# EAGLE library part DAC7574IDGSR (library dac7574)
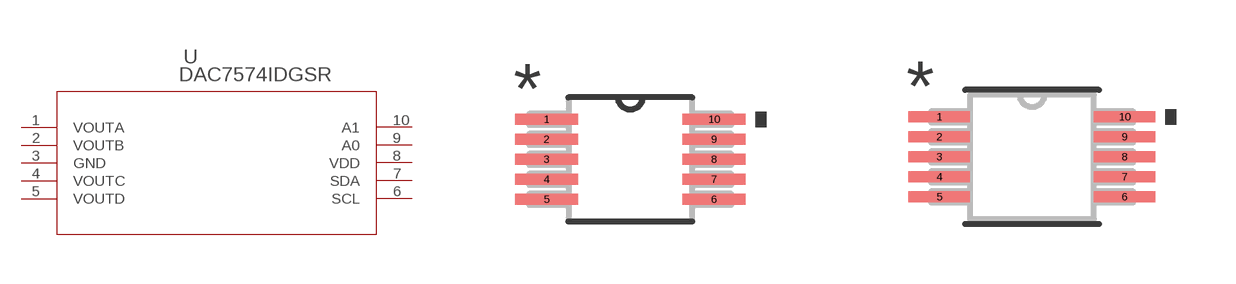
[diagram p0: symbol with the pads of DGS10; footprints DGS10, DGS10-M]

Designator prefix U

## DAC7574IDGSRDGS10 (Copyright: Copyright (C) 2023 Ultra Librarian. All rights reserved.; Manufacturer_Part_Number: DAC7574IDGSR; Mfr_Name: Texas Instruments)  [DGS10]
1  VOUTA  out
2  VOUTB  out
3  GND  pwr
4  VOUTC  out
5  VOUTD  out
6  SCL  in
7  SDA
8  VDD  pwr
9  A0  pas
10  A1  pas

## DAC7574IDGSRDGS10-M (Copyright: Copyright (C) 2023 Ultra Librarian. All rights reserved.; Manufacturer_Part_Number: DAC7574IDGSR; Mfr_Name: Texas Instruments)  [DGS10-M]
Pads as for DGS10

## DAC7574IDGSRDGS10-L (Copyright: Copyright (C) 2023 Ultra Librarian. All rights reserved.; Manufacturer_Part_Number: DAC7574IDGSR; Mfr_Name: Texas Instruments)  [DGS10-L]
Pads as for DGS10

## Footprint DGS10 (pad centres in mm)
smd 1.575 x 0.279: 1 -2.095,1; 2 -2.095,0.5; 3 -2.095,0; 4 -2.095,-0.5; 5 -2.095,-1; 6 2.095,-1; 7 2.095,-0.5; 8 2.095,0; 9 2.095,0.5; 10 2.095,1

## Footprint DGS10-M (pad centres in mm)
smd 1.537 x 0.279: 1 -2.318,1; 2 -2.318,0.5; 3 -2.318,0; 4 -2.318,-0.5; 5 -2.318,-1; 6 2.318,-1; 7 2.318,-0.5; 8 2.318,0; 9 2.318,0.5; 10 2.318,1

## Footprint DGS10-L (pad centres in mm)
smd 1.118 x 0.229: 1 -2.121,1; 2 -2.121,0.5; 3 -2.121,0; 4 -2.121,-0.5; 5 -2.121,-1; 6 2.121,-1; 7 2.121,-0.5; 8 2.121,0; 9 2.121,0.5; 10 2.121,1